# Altium schematic symbol library EFR32BG21.SchLib: 1 symbol
Pins are listed as number, name and electrical type; pins without a type are passive.

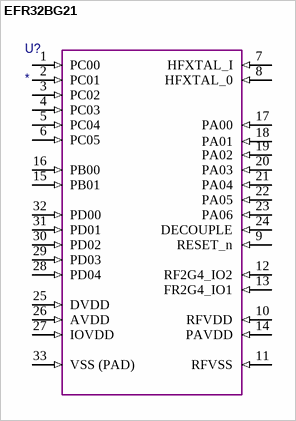
[diagram p0: symbol EFR32BG21]

## EFR32BG21
designator U?
pins: 1 PC00 (in), 2 PC01 (in), 3 PC02 (in), 4 PC03 (in), 5 PC04 (in), 6 PC05 (in), 7 HFXTAL_I (in), 8 HFXTAL_0 (in), 9 RESET_n (in), 10 RFVDD (in), 11 RFVSS (in), 12 RF2G4_IO2 (in), 13 FR2G4_IO1 (in), 14 PAVDD (in), 15 PB01 (in), 16 PB00 (in), 17 PA00 (in), 18 PA01 (in), 19 PA02 (in), 20 PA03 (in), 21 PA04 (in), 22 PA05 (in), 23 PA06 (in), 24 DECOUPLE (in), 25 DVDD (in), 26 AVDD (in), 27 IOVDD (in), 28 PD04 (in), 29 PD03 (in), 30 PD02 (in), 31 PD01 (in), 32 PD00 (in), 33 VSS (PAD) (in)